# Altium integrated library switch-tact.IntLib: 6 symbols
Pins are listed as number, name and electrical type; pins without a type are passive.

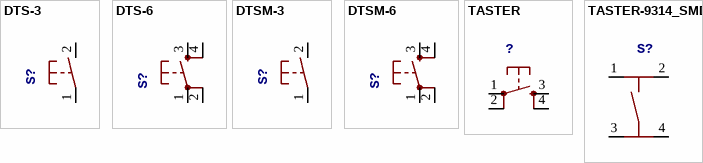
[diagram p0: symbols DTS-3 to TASTER-9314_SMD]

## DTS-3
designator S?
footprint DTS-3
pins: 1, 2

## DTS-6
designator S?
footprint DTS-6
pins: 1, 2, 3, 4

## DTSM-3
designator S?
footprint DTSM-3
pins: 1, 2

## DTSM-6
designator S?
footprint DTSM-6
pins: 1, 2, 3, 4

## TASTER
designator ?
footprint TASTER
pins: 1 P, 2 P1, 3 S, 4 S1

## TASTER-9314_SMD
designator S?
footprint TASTER-9314_SMD
pins: 1, 2, 3, 4